# EAGLE library part TEXAS_LM5574 (library 52101-101-REV-A_v16 v2)
Step-Down Switching Regulator
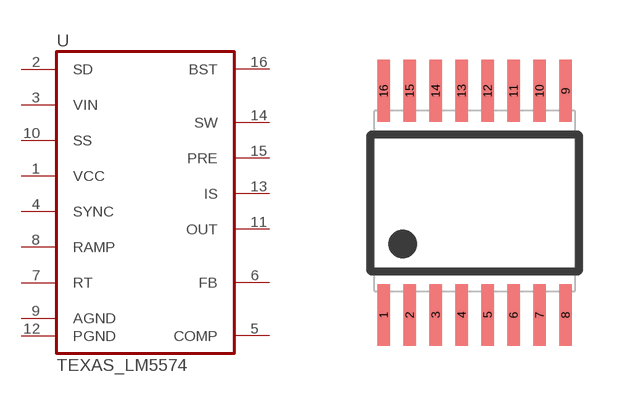
[diagram p2: symbol with the pads of TEXAS_TSSOP16; footprint TEXAS_TSSOP16]

Designator prefix U

## TEXAS_LM5574  [TEXAS_TSSOP16]
1  VCC
2  SD  in
3  VIN  in
4  SYNC
5  COMP  in
6  FB  in
7  RT  in
8  RAMP  in
9  AGND  pwr
10  SS  in
11  OUT
12  PGND  pwr
13  IS  in
14  SW  pas
15  PRE  pas
16  BST  in

## Footprint TEXAS_TSSOP16 (pad centres in mm)
Thin Shrink Small Outline Plastic 16
smd 0.31 x 1.55: 1 -2.275,-2.8; 2 -1.625,-2.8; 3 -0.975,-2.8; 4 -0.325,-2.8; 5 0.325,-2.8; 6 0.975,-2.8; 7 1.625,-2.8; 8 2.275,-2.8; 9 2.275,2.8; 10 1.625,2.8; 11 0.975,2.8; 12 0.325,2.8; 13 -0.325,2.8; 14 -0.975,2.8; 15 -1.625,2.8; 16 -2.275,2.8